# Altium footprint library SamacSys.PcbLib: 20 footprints (part 2 of 2)
Each footprint in its own frame and in the unit in brackets; x right, y up, seen from the top. Pads: shape width x height; smd on the part's side, far side on the other; paste and mask are expansions set on the pad; w line width, h text height; cw(c..) or ccw(c..) is an arc to the next point about the centre after c.
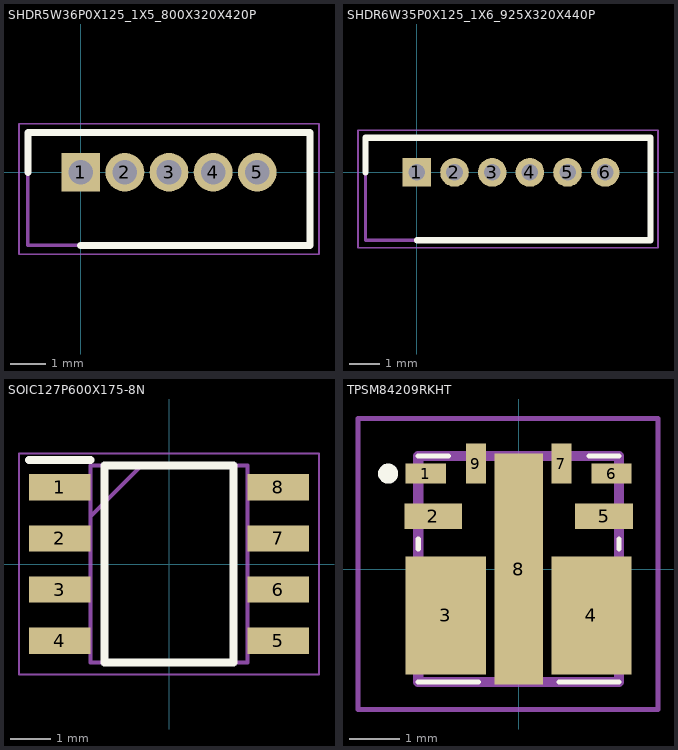
[diagram p1: the footprints below, top view; thin cyan lines are the x and y axes]

## SHDR5W36P0X125_1X5_800X320X420P [mm]
pads (5):
  rect 1.1x1.1 hole 0.7: 1(0,0)
  round 1.1 hole 0.7: 2(1.25,0) 3(2.5,0) 4(3.75,0) 5(5,0)
Top Overlay:
  lines w0.2: -1.5,0 -1.5,1.125 6.5,1.125 6.5,-2.075 0,-2.075
Mechanical 13:
  lines w0.1: -1.5,-2.075 6.5,-2.075 6.5,1.125 -1.5,1.125 -1.5,-2.075
Mechanical 15:
  lines w0.05: -1.75,-2.325 6.75,-2.325 6.75,1.375 -1.75,1.375 -1.75,-2.325
3D body "53047-0510.stp": height 2.1, standoff -4.3, extent -4,-1.6 4,1.6

## SHDR6W35P0X125_1X6_925X320X440P [mm]
pads (6):
  rect 0.95x0.95 hole 0.55: 1(0,0)
  round 0.95 hole 0.55: 2(1.25,0) 3(2.5,0) 4(3.75,0) 5(5,0) 6(6.25,0)
Top Overlay:
  lines w0.2: -1.7,0 -1.7,1.15 7.75,1.15 7.75,-2.25 0,-2.25
Mechanical 13:
  lines w0.1: -1.7,-2.25 7.75,-2.25 7.75,1.15 -1.7,1.15 -1.7,-2.25
Mechanical 15:
  lines w0.05: -1.95,-2.5 8,-2.5 8,1.4 -1.95,1.4 -1.95,-2.5
3D body "53047-0610.stp": height 2.1, standoff -4.3, extent -4.625,-1.6 4.625,1.6

## SOIC127P600X175-8N [mm]
pads (8):
  rect 1.525x0.65 smd: 1(-2.712,1.905) 2(-2.712,0.635) 3(-2.712,-0.635) 4(-2.712,-1.905) 5(2.712,-1.905) 6(2.712,-0.635) 7(2.712,0.635) 8(2.712,1.905)
Top Overlay:
  lines w0.2: -3.475,2.58 -1.95,2.58 ; -1.6,-2.45 1.6,-2.45 1.6,2.45 -1.6,2.45 -1.6,-2.45
Mechanical 13:
  lines w0.1: -1.95,1.18 -0.68,2.45 ; -1.95,-2.45 1.95,-2.45 1.95,2.45 -1.95,2.45 -1.95,-2.45
Mechanical 15:
  lines w0.05: -3.725,-2.75 3.725,-2.75 3.725,2.75 -3.725,2.75 -3.725,-2.75
3D body "NE555DR.stp": height 1.75, standoff 0, extent -3,-2.45 3,2.45

## TPSM84209RKHT [mm]
pads (9):
  rect 0.8x0.4 smd: 1(-1.85,1.9) 6(1.85,1.9)
  rect 1.15x0.5 smd: 2(-1.7,1.05) 5(1.7,1.05)
  rect 1.6x2.35 smd: 3(-1.45,-0.925) 4(1.45,-0.925)
  rect 0.4x0.8 smd: 7(0.85,2.1) 9(-0.85,2.1)
  rect 0.96x4.6 smd: 8(0,0)
Top Overlay:
  lines w0.1: -2,-2.25 -0.8,-2.25 ; -2,0.4 -2,0.6 ; -2,2.25 -1.4,2.25 ; 0.8,-2.25 2,-2.25 ; 1.4,2.25 2,2.25 ; 2,0.4 2,0.6
  lines w0.2: -2.6,1.8 cw(c-2.6,1.9) -2.6,2 cw(c-2.6,1.9) -2.6,1.8
Mechanical 13:
  lines w0.2: -2,-2.25 -2,2.25 2,2.25 2,-2.25 -2,-2.25
Mechanical 15:
  lines w0.1: -3.2,-2.8 -3.2,3 2.775,3 2.775,-2.8 -3.2,-2.8